# Altium schematic symbol library misc.SchLib: 28 symbols
Pins are listed as number, name and electrical type; pins without a type are passive.

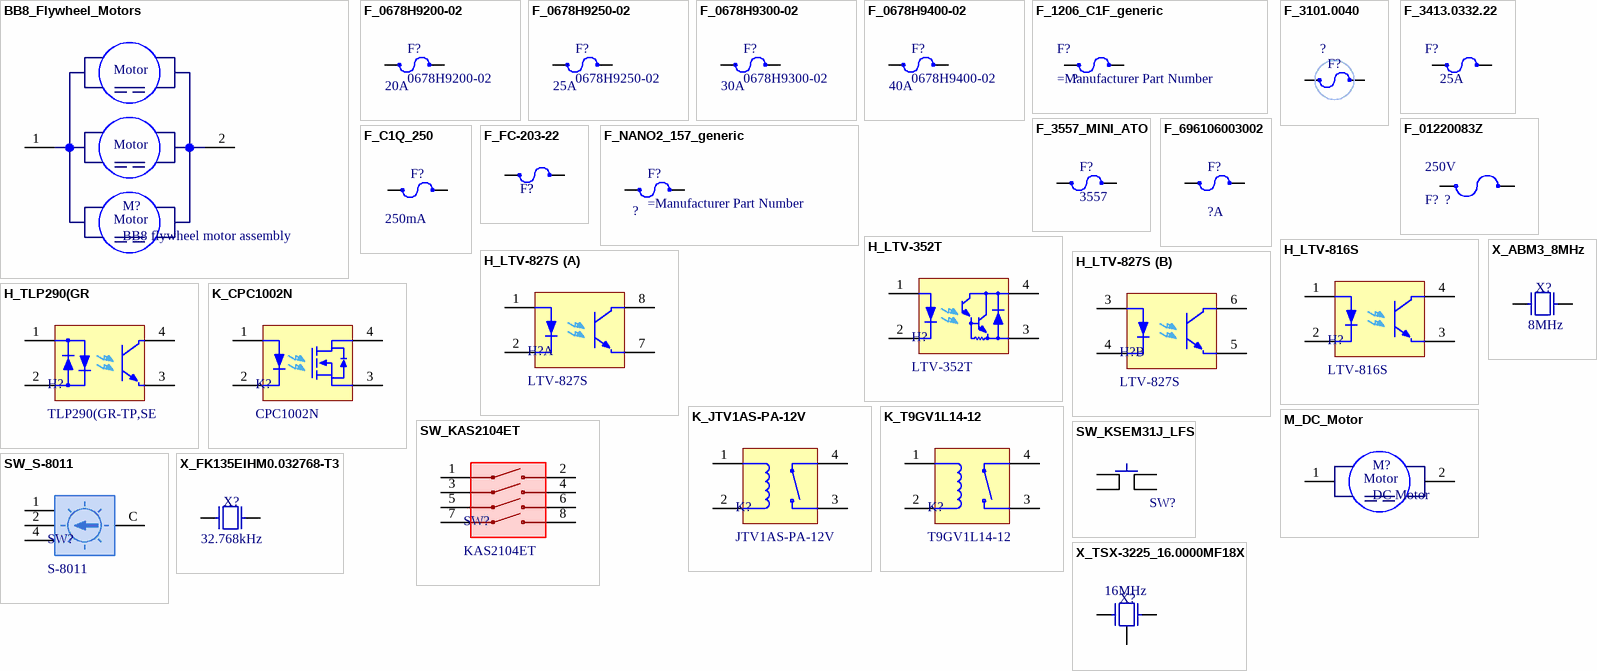
[diagram p0: symbols BB8_Flywheel_Motors to X_TSX-3225_16.0000MF18X]

## BB8_Flywheel_Motors
designator M?, comment BB8 flywheel motor assembly
footprint BB8_Flywheel_Motors_DC_36mm (3 motors all working together to spin the BB8 Flywheel)
pins: 1, 2
text: Motor

## F_0678H9200-02
designator F?, comment 0678H9200-02  value 20A
20A 250V AC 125V DC Fuse Board Mount (Cartridge Style Excluded) Surface Mount 2-SMD, Square End Block; Manufacturer: Bel; DC Cold Resistance: 2.8mR; Supplier 1: Mouser; Supplier 2: Digi-Key; Supplier Part Number 1: 530-0678H9200-02; Supplier Part Number 2: 507-2252-1-ND; Voltage Rating (AC): 250V; Min Operating Temperature: -55°C; Voltage Rating (DC): 125V; Manufacturer Part Number: 0678H9200-02; Current Rating: 20A; Max Operating Temperature: 125°C
footprint F_0678H (Bel Fuse 0678H Series, 9.8x3.05mm)
pins: 1, 2

## F_0678H9250-02
designator F?, comment 0678H9250-02  value 25A
25A 250V AC 125V DC Fuse Board Mount (Cartridge Style Excluded) Surface Mount 2-SMD, Square End Block; Manufacturer: Bel; DC Cold Resistance: 2.3mR; Voltage Rating (AC): 250V; Min Operating Temperature: -55°C; Voltage Rating (DC): 125V; Manufacturer Part Number: 0678H9250-02; Current Rating: 25A; Max Operating Temperature: 125°C; Supplier 1: Mouser; Supplier 2: Digi-Key; Supplier Part Number 1: 530-0678H9250-02; Supplier Part Number 2: 507-2253-1-ND
footprint F_0678H (Bel Fuse 0678H Series, 9.8x3.05mm)
pins: 1, 2

## F_0678H9300-02
designator F?, comment 0678H9300-02  value 30A
30A 250V AC 125V DC Fuse Board Mount (Cartridge Style Excluded) Surface Mount 2-SMD, Square End Block; Manufacturer: Bel; DC Cold Resistance: 1.5mR; Voltage Rating (AC): 250V; Min Operating Temperature: -55°C; Voltage Rating (DC): 125V; Manufacturer Part Number: 0678H9300-02; Current Rating: 30A; Max Operating Temperature: 125°C; Supplier 1: Digi-Key; Supplier 2: Mouser; Supplier Part Number 2: 530-0678H9300-02; Supplier Part Number 1: 507-2254-1-ND
footprint F_0678H (Bel Fuse 0678H Series, 9.8x3.05mm)
pins: 1, 2

## F_0678H9400-02
designator F?, comment 0678H9400-02  value 40A
40A 250V AC 125V DC Fuse Board Mount (Cartridge Style Excluded) Surface Mount 2-SMD, Square End Block; Manufacturer: Bel; DC Cold Resistance: 1.5mR; Voltage Rating (AC): 250V; Min Operating Temperature: -55°C; Voltage Rating (DC): 125V; Manufacturer Part Number: 0678H9400-02; Current Rating: 40A; Max Operating Temperature: 125°C; Supplier 1: Digi-Key; Supplier 2: Mouser; Supplier Part Number 1: 507-2255-1-ND; Supplier Part Number 2: 530-0678H9400-02
footprint F_0678H (Bel Fuse 0678H Series, 9.8x3.05mm)
pins: 1, 2

## F_1206_C1F_generic
designator F?
Generic Fast Blow 125V AC 63V DC Fuse Surface Mount 1206 (3216 Metric) / Possible Values: 250mA, 375mA, 500mA, 750mA, 1A, 1.25A, 1.5A, 2A, 3A, 3.5A, 4A, 5A, 6A, 7A, 8A; Manufacturer: Bel Fuse Inc.; Response Time: Fast; Voltage Rating - AC: 125V; Voltage Rating - DC: 63V; HelpURL: https://www.digikey.com/products/en/circuit-protection/fuses/139?FV=ffecb109%2C1f140000%2Cffe0008b%2C1c0002&quantity=10&ColumnSort=2088&page=1&pageSize=25&pkeyword=fuse; ValueFormatted: =Copy(Value,0,Pos('?',Value)+Length(Value)-1-Pos('m',Copy(Value,Length(Value)-1,1))); Manufacturer Part Number: ='C1F '+ValueFormatted; Value: ?
footprint 1206_Fuse (1206 Fuse)
pins: 1, 2

## F_3101.0040
designator F?, comment 3101.0040  (value not drawn)
Fuse Holder 16A 500V 1 Circuit Cartridge PCB; Manufacturer: Schurter; Approvals: UL,CSA,VDE,IEC,SEMKO; Voltage Rating (AC): 400V; Body Material: Thermoplastic; Voltage Rating (DC): 250V; Power Dissipation: 2.5W; Supplier 1: Digi-Key; Supplier Part Number 1: 486-1159-ND; Min Operating Temperature: -40°C; Manufacturer Part Number: 3101.0040; Max Operating Temperature: 85°C; Max Current: 16A; Value: ?
footprint F_FPG4 (Schurter FPG4 Fuse Holder)
pins: 1, 2

## F_3413.0332.22
designator F?, comment value 25A  (hidden comment: 3413.0332.22)
FUSE BOARD MOUNT 25A 32VAC 63VDC; Response Time: Slow; Voltage Rating - AC: 32V; Voltage Rating - DC: 63V; Supplier 1: Digi-Key; Supplier Part Number 1: 486-1690-6-ND
footprint 1206_Fuse (1206 Fuse)
pins: 1, 2

## F_3557_MINI_ATO
designator F?, comment 3557
Manufacturer: Keystone Electronics; Material: Brass,Nickel; Body Material: Brass; Current Rating: 30A; Voltage Rating (AC): 500V; Number of Circuits: 1; Fuse Current: 20A; Supplier 1: Digi-Key; Manufacturer Part Number: 3557; Stock 1: 70386; Pricing 1: 1=0.2, 10=0.185, 50=0.145, 100=0.1282, 250=0.1134, 500=0.1085, 1000=0.0887, 2500=0.0813, 5000=0.0789 (USD); Mount: Through Hole,Vertical,PCB; Contact Plating: Nickel,Tin; Contact Material: Brass; Min Operating Temperature: -50°C; Max Operating Temperature: 145°C; Package Quantity: 1; Termination: PC Pin; Orientation: Vertical; Packaging: Bulk; Voltage: 500V; Length: 0.4inch; Height: 0.15inch; Depth: 4.7mm; Width: 0.185inch; REACH SVHC: No SVHC; Lead Free: Lead Free; ComponentLink1URL: https://datasheet.ciiva.com/16425/m60-2p39-16425699.pdf; ComponentLink1Description: https://datasheet.ciiva.com/16425/m60-2p39-16425699.pdf; ComponentLink2URL: https://datasheet.ciiva.com/22650/1686040-22650696.pdf; ComponentLink2Description: https://datasheet.ciiva.com/22650/1686040-22650696.pdf; Supplier Part Number 1: 3557K-ND
footprint F_3557_Mini (Keystone FUSE CLIP BLADE 500V 30A PCB, Mini ATO)
footprint F_3557_Standard (Keystone FUSE CLIP BLADE 500V 30A PCB, Standard Size)
pins: 1, 2

## F_01220083Z
designator F?, comment Voltage: 250V  (hidden comment: 01220083Z)
Fuse Clip 30A 250V 1 Circuit Cartridge PCB; Manufacturer: Littelfuse; Body Material: Copper; Supplier 1: Digi-Key; Supplier Part Number 1: F3782-ND; Contact Plating: Silver; Manufacturer Part Number: 01220083Z; Current Rating: 30A; Voltage Rating (DC): 250V; Voltage Rating (AC): 250V; Value: ?
footprint F_122_1.25in (3AG (1/4 in) Fuse Holder (Littelfuse 122 series) for 1.25in long fuses)
pins: 1, 2

## F_696106003002
designator F?, comment value ?A  (hidden comment: 696106003002)
Fuse Block 20A 250V 1 Circuit Cartridge PCB; Manufacturer: Wurth Electronics; Fuse Size: 5mm x 20mm; Holder Current Rating: 20A; Holder Voltage Rating: 250V; Manufacturer Part Number: 696106003002; Supplier 1: Digi-Key; Supplier Part Number 1: 732-11374-ND
footprint F_696106003002 (20A 5x20mm Fuse Holder)
pins: 1, 2

## F_C1Q_250
designator F?, comment value 250mA  (hidden comment: C1Q 250)
FUSE BRD MNT 250MA 125VAC 63VDC; Manufacturer Part Number: C1Q250; Manufacturer: Bel; DC Cold Resistance: 880mR; Power Dissipation: 100mW; Voltage Rating (DC): 63V; Voltage Rating (AC): 125V; Supplier 1: Digi-Key; Supplier Part Number 1: 507-1073-1-ND; Max Operating Temperature: 125°C; Min Operating Temperature: -55°C; Current Rating: 250mA; Housing Material: Ceramic
footprint 1206_Fuse (1206 Fuse)
pins: 1, 2

## F_FC-203-22
designator F?, comment FC-203-22  (value not drawn)
5mm diameter, 15mm or 20mm long fuse; Supplier 1: Digi-Key; Supplier Part Number 1: 507-1703-ND; Value: ?
footprint F_FC-203-22_5x15mm
footprint F_FC-203-22_5x20mm
pins: 1, 2

## F_NANO2_157_generic
designator F?
Generic Fast Blow 125V AC 125V DC Fuse Board Mount (Cartridge Style Excluded) Holder, Surface Mount 2-SMD, Square End Block with Clip / Possible Values: 62mA, 125mA, 250mA, 300mA, 500mA, 750mA, 1A, 1.5A, 2A, 3A, 4A, 5A, 6.3A, 7A, 8A, 10A; Manufacturer: Littelfuse; Voltage Rating (AC): 125V; Max Operating Temperature: 125°C; Min Operating Temperature: -55°C; Voltage Rating (DC): 125V; HelpURL: https://www.digikey.com/products/en/circuit-protection/fuses/139?FV=ffec6a23%2Cffe0008b%2C1c0002%2C1f140000&quantity=10&ColumnSort=2088; Manufacturer Part Number: ='0157'+ValueFormatted+'DR'; ValueFormatted: =Copy('.',0,Pos('m',Value))+Copy('00',0,4-(Length(Value)+(Pos('m',Value) <> 0))-(Pos('.',Value) <> 0))+Copy(Value,0,Pos('?',Value)+Length(Value)-1-Pos('m',Copy(Value,Length(Value)-1,1)))+Copy('.',1+Pos('m',Value)+Pos('.',Value),1); Value: ?
footprint F_157T (Littelfuse 157T)
pins: 1, 2

## H_LTV-352T
designator H?, comment LTV-352T
Optoisolator Darlington Output 3750Vrms 1 Channel 4-SOP; Manufacturer: Vishay Lite-On; Forward Voltage: 1.4V; Collector Emitter Voltage (VCEO): 300V; Collector Emitter Saturation Voltage: 1.2V; Rise Time: 300000ns; Forward Current: 50mA; Max Power Dissipation: 170mW; Isolation Voltage: 3.75kV; Max Collector Current: 150mA; Fall Time: 100000ns; Reverse Breakdown Voltage: 6V; Supplier 1: Digi-Key; Supplier Part Number 1: 160-1331-1-ND; Manufacturer Part Number: LTV-352T; Max Operating Temperature: 100°C; Min Operating Temperature: -55°C
footprint SOP-4
pins: 1 Anode, 2 Cathode, 3 Emitter, 4 Collector

## H_LTV-816S
designator H?, comment LTV-816S
Optoisolator Transistor Output 5000Vrms 1 Channel 4-SMD; Manufacturer: Vishay Lite-On; Max Power Dissipation: 200mW; Isolation Voltage: 5kV; Collector Emitter Saturation Voltage: 200mV; Fall Time: 18000ns; Forward Voltage: 1.4V; Max Output Voltage: 80V; Current Transfer Ratio: 320%; Reverse Breakdown Voltage: 6V; Max Collector Current: 50mA; Supplier 1: Digi-Key; Supplier Part Number 1: 160-1361-5-ND; Min Operating Temperature: -50°C; Max Operating Temperature: 110°C; Manufacturer Part Number: LTV-816S; Rise Time: 18000ns; Max Input Current: 50mA
footprint SMD-4 (4 pin SMD package, 100mil pitch)
pins: 1 Anode, 2 Cathode, 3 Emitter, 4 Collector

## H_LTV-827S
designator H?, comment LTV-827S
Optoisolator Transistor Output 5000Vrms 2 Channel 8-SMD; Manufacturer: Vishay Lite-On; Isolation Voltage: 5kV; Collector Emitter Saturation Voltage: 200mV; Collector Emitter Voltage (VCEO): 35V; Max Collector Current: 50mA; Reverse Breakdown Voltage: 6V; Fall Time: 18000ns; Current Transfer Ratio: 600%; Max Power Dissipation: 200mW; Number of Channels: 2; Forward Voltage: 1.4V; Supplier 1: Digi-Key; Supplier Part Number 1: 160-1369-5-ND; Min Operating Temperature: -30°C; Manufacturer Part Number: LTV-827S; Max Operating Temperature: 110°C; Output Voltage: 35V; Max Input Current: 50mA; Forward Current: 50mA; Max Output Voltage: 35V
footprint SMD-8 (8 pin SMD package, 100mil pitch)
part A pins: 1 Anode, 2 Cathode, 7 Emitter, 8 Collector
part B pins: 3 Anode, 4 Cathode, 5 Emitter, 6 Collector

## H_TLP290(GR
designator H?, comment TLP290(GR-TP,SE
Optoisolator Transistor Output 3750Vrms 1 Channel 4-SO; Manufacturer: Toshiba; Isolation Voltage: 3.75kV; Collector Emitter Saturation Voltage: 300mV; Fall Time: 3us; Forward Voltage: 1.25V; Max Output Voltage: 80V; Current Transfer Ratio: 100%; Rise Time: 2us; Reverse Breakdown Voltage: 6V; Max Collector Current: 50mA; Min Operating Temperature: -55°C; Max Operating Temperature: 110°C; Manufacturer Part Number: TLP290(GR-TP,SE; Max Input Current: 50mA
footprint SO-4 (1.27mm pitch, 7mm width, 4 pin IC)
pins: 1 Anode, 2 Cathode, 3 Emitter, 4 Collector

## K_CPC1002N
designator K?, comment CPC1002N
Solid State Relay SPST-NO (1 Form A) 4-SOP (0.150", 3.81mm); Manufacturer: Ixys Clare; Throw Configuration: SPST; Input Current: 50mA; Max Input Voltage: 1.4V; Max Power Dissipation: 400mW; Isolation Voltage: 1.5kV; Max Output Voltage: 60V; On-State Resistance: 550mR; Load Current: 700mA; Supplier 1: Digi-Key; Supplier Part Number 1: CLA221-ND; Min Operating Temperature: -40°C; Max Operating Temperature: 85°C; Manufacturer Part Number: CPC1002N
footprint SOP-4
pins: 1 CTRL+, 2 CTRL-, 3 DC-, 4 DC+

## K_JTV1AS-PA-12V
designator K?, comment JTV1AS-PA-12V
General Purpose Relay SPST-NO (1 Form A) 12VDC Coil Through Hole; Manufacturer: Panasonic; Coil Resistance: 144R; Release Time: 10ms; Coil Current: 83.3mA; Max Voltage Rating (AC): 277V; Contact Current Rating: 30A; Coil Voltage (DC): 12V; Throw Configuration: SPST; Operate Time: 15ms; Coil Type: Non-Latching; Coil Power: 1W; Supplier 1: Digi-Key; Supplier Part Number 1: 255-2817-ND; Contact Material: Silver,Tin; Manufacturer Part Number: JTV1AS-PA-12V; Weight: 25g; Max Operating Temperature: 85°C; Min Operating Temperature: -55°C
footprint K_T9A_SPST-NO (TE Connectivity T9A Series Relay, SPST)
pins: 1 CTRL+, 2 CTRL-, 3 DC-, 4 DC+

## K_T9GV1L14-12
designator K?, comment T9GV1L14-12
General Purpose Relay SPST-NO (1 Form A) 12VDC Coil Through Hole; Manufacturer: TE Connectivity P&B; Supplier 1: Digi-Key; Supplier Part Number 1: PB2364-ND; Manufacturer Part Number: T9GV1L14-12
footprint K_T9G_SPST-NO (TE Connectivity TG9 Series Relay)
pins: 1 CTRL+, 2 CTRL-, 3 DC-, 4 DC+

## M_DC_Motor
designator M?, comment DC Motor
36mm DC Motor
footprint Motor_DC_36mm (36 mm diameter brushed DC gear motor)
pins: 1, 2
text: Motor

## SW_KAS2104ET
designator SW?, comment KAS2104ET
Dip Switch SPST 4 Position Through Hole, Right Angle Slide (Standard) Actuator 25mA 24VDC; Supplier 1: Digi-Key; Supplier Part Number 1: EG4509-ND
footprint SW_DIP_RA_THRU_4 (Footprint not found)
pins: 1, 2, 3, 4, 5, 6, 7, 8

## SW_KSEM31J_LFS
designator SW?, comment KSEM31J_LFS  (value not drawn)
Tactile Switch SPST-NO Top Actuated Surface Mount; Package: 6mm x 6mm; Supplier 1: Digi-Key; Supplier Part Number 1: CKN10425CT-ND
footprint SW_6x6mm_SMD
pins: 1, 2, 3, 4

## SW_S-8011
designator SW?, comment S-8011
Dip Switch Octal 8 Position Through Hole, Right Angle Rotary for Tool Actuator 100mA 5VDC; Supplier 1: Digi-Key; Supplier Part Number 1: 563-1054-ND
footprint SW_S-8011 (SWITCH ROTARY DIP OCTAL 100MA 5V)
pins: 1, 2, 4, C

## X_ABM3_8MHz
designator X?, comment value 8MHz  (hidden comment: ABM3-8.000MHZ-D2Y-T)
Crystal 8.0000MHz 20ppm 18pF 140 Ohm -40°C - 85°C Surface Mount 2-SMD; SVP Creator: Spencer Berglund; Supplier 1: Digi-Key; Supplier Part Number 1: 535-10630-1-ND
footprint X_ABM3 (ABM3  Ceramic Crystal)
simulation model XTAL (Generic type:crystal pkg:HC33/51)
pins: 1, 2

## X_FK135EIHM0.032768-T3
designator X?, comment value 32.768kHz  (hidden comment: FK135EIHM0.032768-T3)
32.768kHz ±20ppm Crystal 12.5pF 70 kOhms 2-SMD, No Lead; Manufacturer: Fox Electronics; Supplier 1: Digi-Key; Supplier Part Number 1: 631-1002-6-ND; Manufacturer Part Number: FK135EIHM0.032768-T3; Frequency Tolerance: ±20ppm; Load Capacitance: 12.5pF
footprint Crystal_3.2x1.5mm (3.2x1.5mm 2-pad no lead Cystal SMD)
pins: 1, 2

## X_TSX-3225_16.0000MF18X
designator X?, comment value 16MHz  (hidden comment: TSX-3225_16.0000MF18X)
16MHz ±10ppm Crystal 9pF 60 Ohms 4-SMD, No Lead; Manufacturer: Epson; Manufacturer Part Number: TSX-322516.0000MF18X-AC3; Frequency Stability: 18ppm; ESR (Equivalent Series Resistance): 60R; Supplier 1: Digi-Key; Supplier Part Number 1: SER3636CT-ND; Load Capacitance: 9pF; Frequency Tolerance: 10ppm; Max Operating Temperature: 85°C; Min Operating Temperature: -40°C
simulation model XTAL (Generic type:crystal pkg:HC33/51)
footprint X_TSX-3225 (3.20mm x 2.50mm, 4 terminal, No Lead Crystal)
pins: 1, 2, 3, 4